# Altium footprint library Led 7 Segment.PcbLib: 1 footprints
Each footprint in its own frame and in the unit in brackets; x right, y up, seen from the top. Pads: shape width x height; smd on the part's side, far side on the other; paste and mask are expansions set on the pad; w line width, h text height; cw(c..) or ccw(c..) is an arc to the next point about the centre after c.
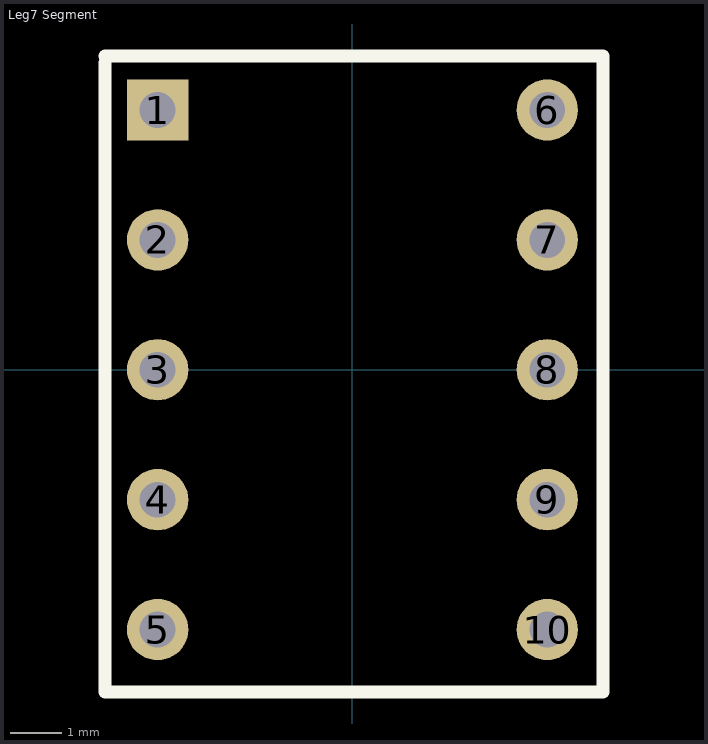
[diagram p0: the footprint, top view; thin cyan lines are the x and y axes]

## Leg7 Segment [mm]
pads (10):
  rect 1.2x1.2 hole 0.7: 1(-3.81,5.08)
  round 1.2 hole 0.7: 2(-3.81,2.54) 3(-3.81,0) 4(-3.81,-2.54) 5(-3.81,-5.08) 6(3.81,5.08) 7(3.81,2.54) 8(3.81,0) 9(3.81,-2.54) 10(3.81,-5.08)
Top Overlay:
  lines w0.254: -4.835,6.005 -4.835,-6.305 4.895,-6.305 4.895,6.14 -4.835,6.14
3D body "LTS-546AHR.STEP": height 5, standoff -6, extent -5.07,-6.6 4.93,6.4